# Altium schematic symbol library Control_Board_Model.SCHLIB: 226 symbols (part 2 of 7)
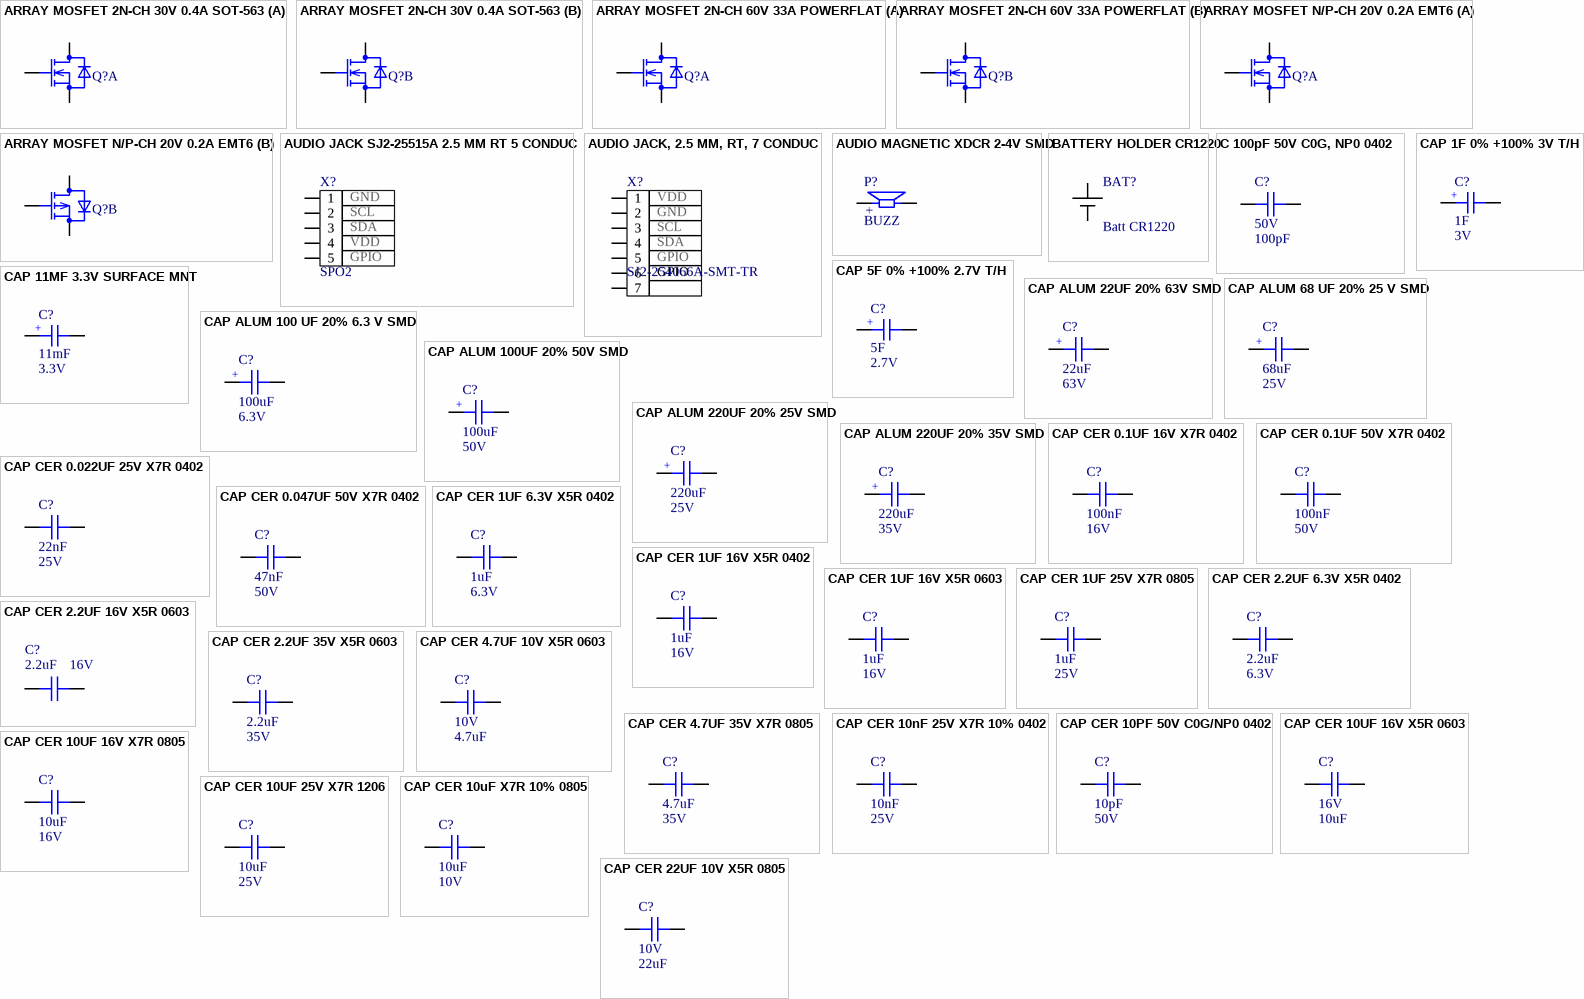
[diagram p8: symbols ARRAY MOSFET 2N-CH 30V 0.4A SOT-563 to CAP CER 22UF 10V X5R 0805]

## CAP CER 10UF 25V X7R 1206
designator C?  Capacitance: 10uF  Voltage Rating: 25V  (hidden comment: CAP CER 10UF 25V X7R 1206)
10µF ±10% 25V Ceramic Capacitor X7R 1206 (3216 Metric); Manufacturer: Yageo; Manufacturer Part Number: CC1206KKX7R8BB106; Supplier 1: Digi-Key; Stock 1: 3990; Pricing 1: 1=0.49, 10=0.348, 50=0.2632, 100=0.2293, 500=0.1698, 1000=0.1444 (USD); Mount: Surface Mount; Case/Package: 1206; Weight: 0.000571oz; Case Code (Imperial): 1206; Case Code (Metric): 3216; Min Operating Temperature: -55°C; Max Operating Temperature: 125°C; Tolerance: 10%; Packaging: Tape and Reel; Voltage Rating (DC): 25V; Dielectric: X7R; Termination: SMD/SMT; Composition: Ceramic; Length: 3.2mm; Width: 1.6mm; Thickness: 0.071inch; Depth: 1.6mm; Radiation Hardening: No; Lead Free: Lead Free; Halogen Free: Halogen Free; ComponentLink1URL: http://www.yageo.com/documents/recent/UPY-GPHC_X7R_6.3V-to-50V_8.pdf?src-supplier=Avnet; ComponentLink1Description: http://www.yageo.com/documents/recent/UPY-GPHC_X7R_6.3V-to-50V_8.pdf?src-supplier=Avnet; ComponentLink2URL: http://www.mouser.com/ds/2/447/Yageo_UPY-GP_NP0_16V-to-50V_9-358835.pdf?src-supplier=Mouser; ComponentLink2Description: http://www.mouser.com/ds/2/447/Yageo_UPY-GP_NP0_16V-to-50V_9-358835.pdf?src-supplier=Mouser; ComponentLink3URL: http://components.arrow.com/part/dataview/0323_04166677?src-supplier=Arrow+Europe; ComponentLink3Description: http://components.arrow.com/part/dataview/0323_04166677?src-supplier=Arrow+Europe; ComponentLink4URL: http://www.yageo.com/documents/recent/UPY-GPHC_X7R_6.3V-to-50V_18.pdf?src-supplier=Digi-Key; ComponentLink4Description: http://www.yageo.com/documents/recent/UPY-GPHC_X7R_6.3V-to-50V_18.pdf?src-supplier=Digi-Key; ComponentLink5URL: http://www.yageo.com/documents/recent/UPY-GPHC_X7R_6.3V-to-50V_9.pdf?src-supplier=Future+Electronics; ComponentLink5Description: http://www.yageo.com/documents/recent/UPY-GPHC_X7R_6.3V-to-50V_9.pdf?src-supplier=Future+Electronics; Supplier Part Number 1: 311-1959-1-ND
footprint CAP_1206
footprint C1206
pins: 1, 2

## CAP CER 10uF X7R 10% 0805
designator C?  Capacitance: 10uF  Voltage Rating: 10V  (hidden comment: CAP CER 10uF X7R 10% 0805)
Capacitor,10uF,10V,X7R,10%,0805,Murata; Manufacturer Part Number: GRM21BR71A106KA73L; Supplier 1: Digi-Key; Manufacturer: Murata; Stock 1: 2099435; Pricing 1: 1=0.26, 10=0.176, 100=0.089, 500=0.0609, 1000=0.0538 (USD); Mount: Surface Mount; Case/Package: 0805; Case Code (Imperial): 0805; Case Code (Metric): 2012; Min Operating Temperature: -55°C; Max Operating Temperature: 125°C; Tolerance: 10%; Dielectric: X7R; Voltage Rating (DC): 10V; Packaging: Tape and Reel; Package Quantity: 3000; Termination: SMD/SMT; Length: 2mm; Height: 1.25mm; Width: 1.25mm; Thickness: 0.055inch; Depth: 1.25mm; REACH SVHC: No SVHC; ComponentLink1URL: http://components.arrow.com/part/dataview/0323_07281730?src-supplier=Arrow+Europe; ComponentLink1Description: http://components.arrow.com/part/dataview/0323_07281730?src-supplier=Arrow+Europe; ComponentLink2URL: http://www.mouser.com/ds/2/281/c02e-2905.pdf?src-supplier=Mouser; ComponentLink2Description: http://www.mouser.com/ds/2/281/c02e-2905.pdf?src-supplier=Mouser; ComponentLink3URL: http://www.farnell.com/datasheets/2079188.pdf?src-supplier=Newark; ComponentLink3Description: http://www.farnell.com/datasheets/2079188.pdf?src-supplier=Newark; ComponentLink4URL: http://www.farnell.com/datasheets/2079188.pdf?src-supplier=Farnell; ComponentLink4Description: http://www.farnell.com/datasheets/2079188.pdf?src-supplier=Farnell; ComponentLink5URL: http://www.farnell.com/datasheets/2079188.pdf?src-supplier=Element14; ComponentLink5Description: http://www.farnell.com/datasheets/2079188.pdf?src-supplier=Element14; Supplier Part Number 1: 490-10516-1-ND; Weight: 0.000335oz; ComponentLink6URL: http://search.murata.co.jp/Ceramy/image/img/A01X/G101/ENG/GRM21BR71A106KA73-01.pdf?src-supplier=Digi-Key; ComponentLink6Description: http://search.murata.co.jp/Ceramy/image/img/A01X/G101/ENG/GRM21BR71A106KA73-01.pdf?src-supplier=Digi-Key
footprint 0805C
footprint C0805
pins: 1, 2

## CAP CER 22UF 10V X5R 0805
designator C?  Voltage Rating: 10V  Capacitance: 22uF  (hidden comment: CAP CER 22UF 10V X5R 0805)
22µF ±20% 10V Ceramic Capacitor X5R 0805 (2012 Metric); Manufacturer: Taiyo Yuden; Manufacturer Part Number: LMK212BJ226MG-T; Supplier 1: Digi-Key; Stock 1: 1006805; Pricing 1: 1=0.45, 10=0.312, 100=0.1875, 500=0.1406, 1000=0.1187 (USD); Mount: Surface Mount; Number of Pins: 2; Case Code (Metric): 2012; Case Code (Imperial): 0805; Min Operating Temperature: -55°C; Max Operating Temperature: 85°C; Packaging: Tape and Reel; Tolerance: 20%; Voltage Rating (DC): 10V; Dielectric: X5R; Termination: SMD/SMT; Package Quantity: 1; Composition: Ceramic; Length: 2mm; Height: 1.25mm; Width: 0.049inch; Thickness: 0.053inch; Depth: 1.25mm; Radiation Hardening: No; REACH SVHC: Unknown; ComponentLink1URL: https://www.yuden.co.jp/productdata/catalog/mlcc_all_e.pdf?src-supplier=Onlinecomponents.com; ComponentLink1Description: https://www.yuden.co.jp/productdata/catalog/mlcc_all_e.pdf?src-supplier=Onlinecomponents.com; ComponentLink2URL: https://www.yuden.co.jp/productdata/catalog/mlcc01_e.pdf?src-supplier=Digi-Key; ComponentLink2Description: https://www.yuden.co.jp/productdata/catalog/mlcc01_e.pdf?src-supplier=Digi-Key; ComponentLink3URL: https://www.yuden.co.jp/productdata/catalog/mlcc_all_e.pdf?src-supplier=Mouser; ComponentLink3Description: https://www.yuden.co.jp/productdata/catalog/mlcc_all_e.pdf?src-supplier=Mouser; ComponentLink4URL: http://www.farnell.com/datasheets/1910934.pdf?src-supplier=Element14; ComponentLink4Description: http://www.farnell.com/datasheets/1910934.pdf?src-supplier=Element14; ComponentLink5URL: https://www.yuden.co.jp/productdata/catalog/mlcc_all_e.pdf?src-supplier=Avnet; ComponentLink5Description: https://www.yuden.co.jp/productdata/catalog/mlcc_all_e.pdf?src-supplier=Avnet; Supplier Part Number 1: 587-1958-1-ND; Case/Package: 0805
footprint C0805
pins: 1, 2

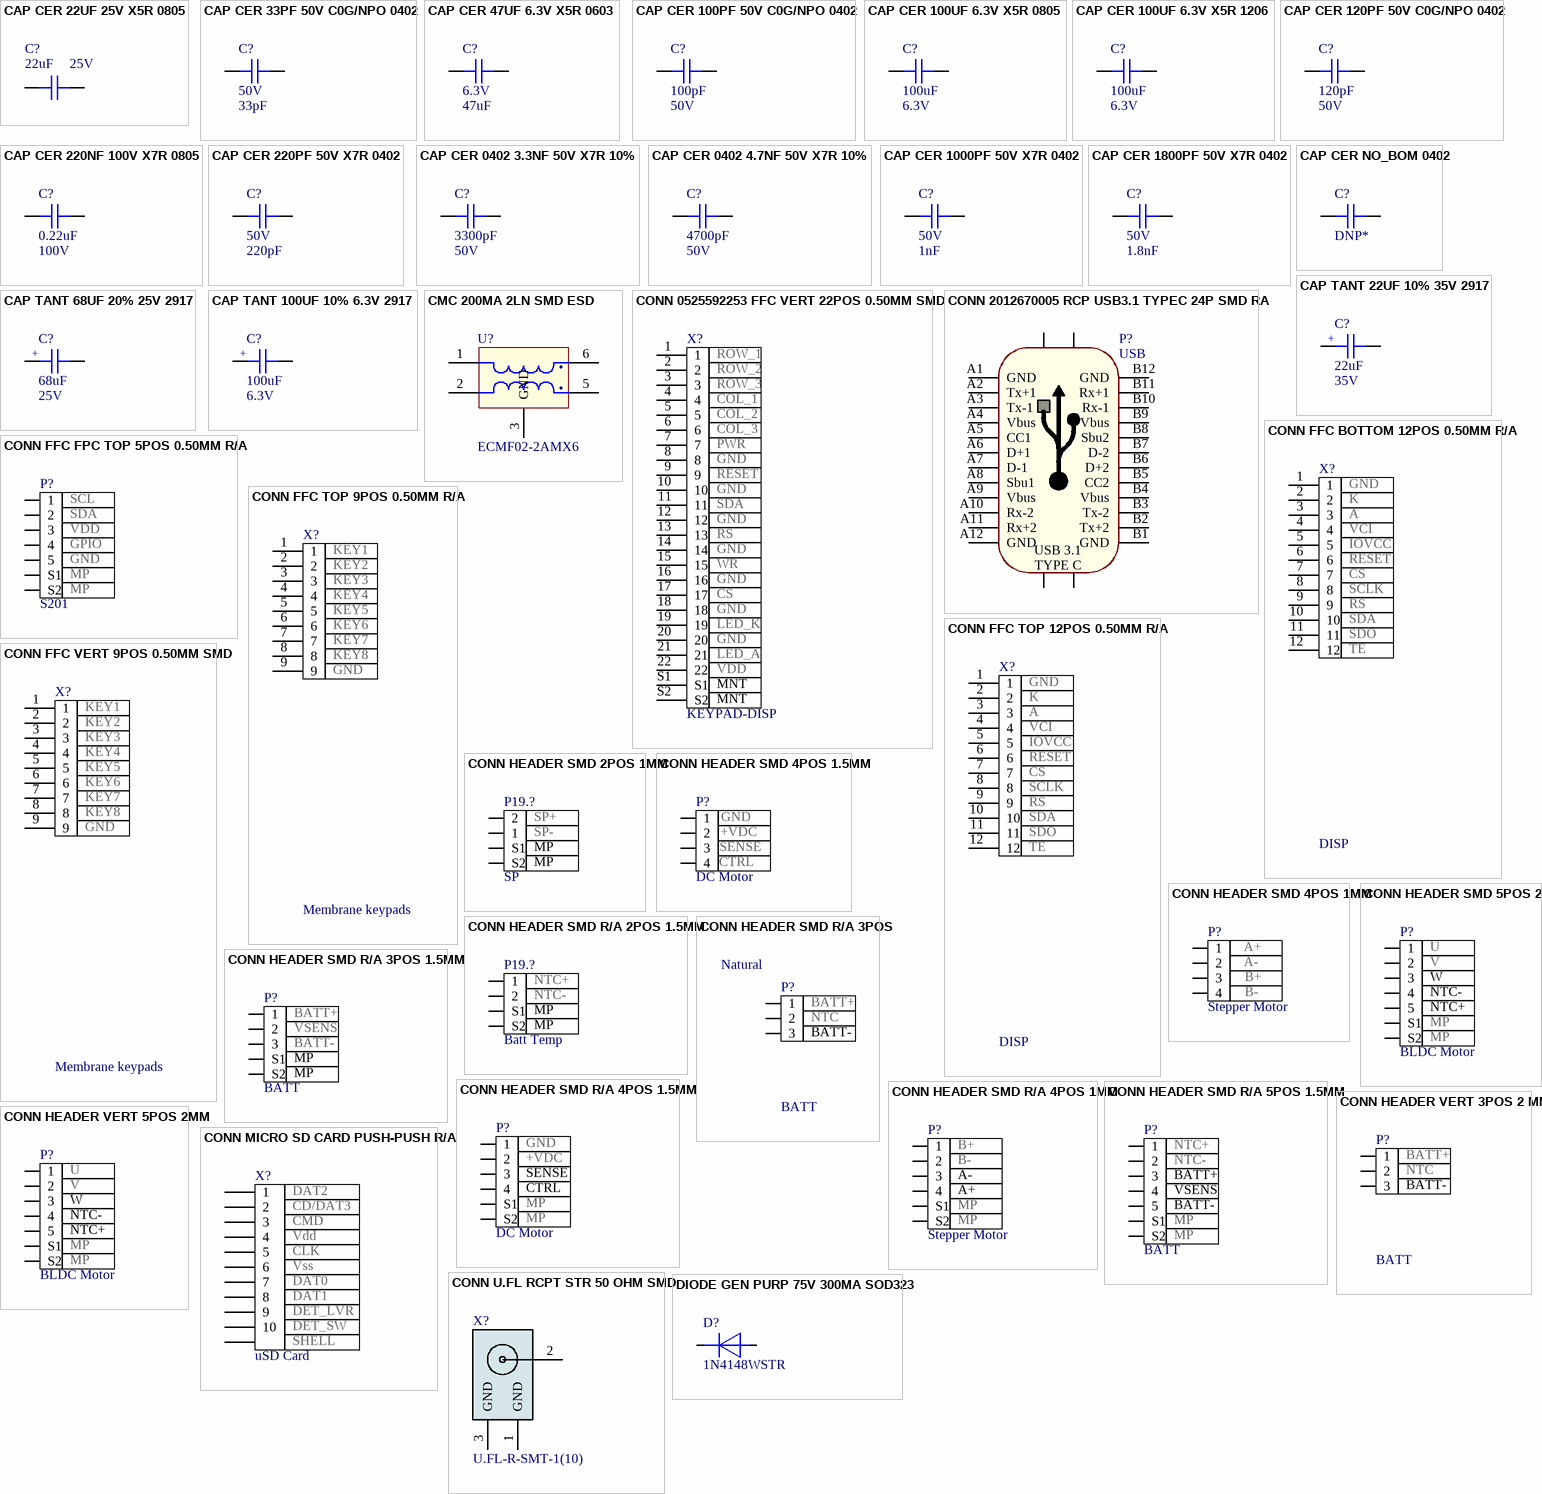
[diagram p1: symbols CAP CER 22UF 25V X5R 0805 to DIODE GEN PURP 75V 300MA SOD323]

## CAP CER 22UF 25V X5R 0805
designator C?  Capacitance: 22uF  Voltage Rating: 25V  (hidden comment: CAP CER 22UF 25V X5R 0805)
22µF ±20% 25V Ceramic Capacitor X5R 0805 (2012 Metric); Manufacturer: Yageo; Manufacturer Part Number: CC0805MKX5R8BB226; Supplier 1: Digi-Key; Stock 1: 1060; Pricing 1: 1=0.5, 10=0.353, 50=0.267, 100=0.2325, 500=0.1722, 1000=0.1464 (USD); Mount: Surface Mount; Case/Package: 0805; Weight: 0.000194oz; Case Code (Metric): 2012; Case Code (Imperial): 0805; Min Operating Temperature: -55°C; Max Operating Temperature: 85°C; Packaging: Tape and Reel; Tolerance: 20%; Dielectric: X5R; Termination: SMD/SMT; Voltage Rating (DC): 25V; Package Quantity: 3000; Length: 0.079inch; Height: 1.25mm; Width: 0.049inch; Thickness: 0.057inch; Lead Free: Lead Free; Halogen Free: Halogen Free; ComponentLink1URL: http://www.yageo.com/documents/recent/UPY-GPHC_X5R_4V-to-50V_25.pdf?src-supplier=Digi-Key; ComponentLink1Description: http://www.yageo.com/documents/recent/UPY-GPHC_X5R_4V-to-50V_25.pdf?src-supplier=Digi-Key; ComponentLink2URL: http://www.mouser.com/ds/2/447/Yageo_UPY-GP_NP0_16V-to-50V_9-358835.pdf?src-supplier=Mouser; ComponentLink2Description: http://www.mouser.com/ds/2/447/Yageo_UPY-GP_NP0_16V-to-50V_9-358835.pdf?src-supplier=Mouser; Supplier Part Number 1: 311-1903-1-ND
footprint C0805
pins: 1, 2

## CAP CER 33PF 50V C0G/NPO 0402
designator C?  Voltage Rating: 50V  Capacitance: 33pF  (hidden comment: CAP CER 33PF 50V C0G/NPO 0402)
33pF ±5% 50V Ceramic Capacitor C0G, NP0 0402 (1005 Metric); Manufacturer: Yageo; Manufacturer Part Number: CC0402JRNPO9BN330; Insulation Resistance: 100GR; Supplier 1: Digi-Key; Stock 1: 622219; Pricing 1: 1=0.1, 10=0.022, 100=0.0099, 500=0.0071, 1000=0.0056, 2500=0.0051, 5000=0.0047 (USD); Mount: Surface Mount; Number of Pins: 2; Weight: 2.3E-05oz; Case Code (Imperial): 0402; Case Code (Metric): 1005; Dielectric Material: Ceramic; Min Operating Temperature: -55°C; Max Operating Temperature: 125°C; Tolerance: 5%; Dielectric: C0G; Voltage Rating (DC): 50V; Packaging: Tape and Reel; Package Quantity: 1; Termination: SMD/SMT; Composition: Ceramic; Length: 1mm; Height: 0.5mm; Depth: 0.5mm; Width: 0.5mm; Thickness: 0.022inch; Radiation Hardening: No; REACH SVHC: No SVHC; Lead Free: Lead Free; ComponentLink1URL: https://www.verical.com/server-webapp/html/getDatasheet?partID=403453&src-supplier=Verical; ComponentLink1Description: https://www.verical.com/server-webapp/html/getDatasheet?partID=403453&src-supplier=Verical; ComponentLink2URL: http://www.farnell.com/datasheets/2213336.pdf?src-supplier=Element14; ComponentLink2Description: http://www.farnell.com/datasheets/2213336.pdf?src-supplier=Element14; ComponentLink3URL: http://www.mouser.com/ds/2/447/Yageo_UPY-GP_NP0_16V-to-50V_9-358835.pdf?src-supplier=Mouser; ComponentLink3Description: http://www.mouser.com/ds/2/447/Yageo_UPY-GP_NP0_16V-to-50V_9-358835.pdf?src-supplier=Mouser; ComponentLink4URL: http://www.yageo.com/documents/recent/UPY-GP_NP0_16V-to-50V_16.pdf?src-supplier=Digi-Key; ComponentLink4Description: http://www.yageo.com/documents/recent/UPY-GP_NP0_16V-to-50V_16.pdf?src-supplier=Digi-Key; ComponentLink5URL: http://www.yageo.com/documents/recent/UPY-GP_NP0_16V-to-50V_8.pdf?src-supplier=Avnet+Europe; ComponentLink5Description: http://www.yageo.com/documents/recent/UPY-GP_NP0_16V-to-50V_8.pdf?src-supplier=Avnet+Europe; Supplier Part Number 1: 311-1020-1-ND; Case/Package: 0402; ClassName: P109
footprint C0402
pins: 1, 2

## CAP CER 47UF 6.3V X5R 0603
designator C?  Voltage Rating: 6.3V  Capacitance: 47uF  (hidden comment: CAP CER 47UF 6.3V X5R 0603)
47 µF ±20% 6.3V Ceramic Capacitor X5R 0603 (1608 Metric); Manufacturer: AVX Corporation; Manufacturer Part Number: 06036D476MAT2A; Supplier 1: Digi-Key; Stock 1: 325858; Pricing 1: 1=0.26, 10=0.18, 100=0.102, 500=0.072, 1000=0.063 (USD); Mount: Surface Mount; Case Code (Imperial): 0603; Case Code (Metric): 1608; Min Operating Temperature: -55°C; Max Operating Temperature: 85°C; Voltage Rating (DC): 6.3V; Tolerance: 20%; Packaging: Tape and Reel; Package Quantity: 1; Dielectric: X5R; Termination: SMD/SMT; Composition: Ceramic; Length: 1.6mm; Height: 0.8mm; Width: 0.8mm; Thickness: 0.035inch; Depth: 0.8mm; Radiation Hardening: No; REACH SVHC: Unknown; Lead Free: Lead Free; Halogen Free: Halogen Free; ComponentLink1URL: https://www.digikey.com/en/products/detail/avx-corporation/06036D476MAT2A/7563129?s=N4IgTCBcDaIAwDY4GYEBEAsB2BBZAggCpj4gC6AvkA; ComponentLink1Description: https://www.digikey.com/en/products/detail/avx-corporation/06036D476MAT2A/7563129?s=N4IgTCBcDaIAwDY4GYEBEAsB2BBZAggCpj4gC6AvkA; Supplier Part Number 1: 478-11180-1-ND; Case/Package: 0603
footprint 0603C
footprint C0603
pins: 1, 2

## CAP CER 100PF 50V C0G/NPO 0402
designator C?  Capacitance: 100pF  Voltage: 50V  (hidden comment: CAP CER 100PF 50V C0G/NPO 0402)
100pF ±5% 50V Ceramic Capacitor C0G, NP0 0402 (1005 Metric); Manufacturer: Yageo; Manufacturer Part Number: CC0402JRNPO9BN101; Insulation Resistance: 100GR; Temperature Coefficient: 30ppm/°C; Supplier 1: Digi-Key; Stock 1: 3017640; Pricing 1: 1=0.1, 10=0.02, 100=0.0089, 500=0.0064, 1000=0.005, 2500=0.0046, 5000=0.0042 (USD); Mount: Surface Mount; Case Code (Metric): 1005; Case Code (Imperial): 0402; Min Operating Temperature: -55°C; Max Operating Temperature: 125°C; Tolerance: 5%; Dielectric: C0G; Voltage Rating (DC): 50V; Packaging: Tape and Reel; Voltage Rating: 50V; Package Quantity: 1; Termination: SMD/SMT; Length: 1mm; Height: 0.5mm; Depth: 0.5mm; Width: 0.5mm; Thickness: 0.022inch; Radiation Hardening: No; REACH SVHC: No SVHC; Lead Free: Lead Free; ComponentLink1URL: http://www.farnell.com/datasheets/2213336.pdf?src-supplier=Newark; ComponentLink1Description: http://www.farnell.com/datasheets/2213336.pdf?src-supplier=Newark; ComponentLink2URL: http://www.yageo.com/documents/recent/UPY-GP_NP0_16V-to-50V_16.pdf?src-supplier=Digi-Key; ComponentLink2Description: http://www.yageo.com/documents/recent/UPY-GP_NP0_16V-to-50V_16.pdf?src-supplier=Digi-Key; ComponentLink3URL: http://documents.rs-components.com/techlib://itc_doclist_GB.htm?stockno=6698684&src-supplier=RSComponents; ComponentLink3Description: http://documents.rs-components.com/techlib://itc_doclist_GB.htm?stockno=6698684&src-supplier=RSComponents; ComponentLink4URL: http://www.yageo.com/documents/recent/UPY-GP_NP0_16V-to-50V_8.pdf?src-supplier=Avnet+Europe; ComponentLink4Description: http://www.yageo.com/documents/recent/UPY-GP_NP0_16V-to-50V_8.pdf?src-supplier=Avnet+Europe; Supplier Part Number 1: 311-1024-6-ND; Case/Package: 0402; Number of Pins: 2; Dielectric Material: Ceramic; Composition: Ceramic; ComponentLink5URL: http://www.farnell.com/datasheets/1443161.pdf?src-supplier=Element14; ComponentLink5Description: http://www.farnell.com/datasheets/1443161.pdf?src-supplier=Element14; ComponentLink6URL: http://www.farnell.com/datasheets/2213336.pdf?src-supplier=Element14; ComponentLink6Description: http://www.farnell.com/datasheets/2213336.pdf?src-supplier=Element14
footprint C0402
pins: 1, 2

## CAP CER 100UF 6.3V X5R 0805
designator C?  Capacitance: 100uF  Voltage Rating: 6.3V  (hidden comment: CAP CER 100UF 6.3V X5R 0805)
100 µF ±20% 6.3V Ceramic Capacitor X5R 0805 (2012 Metric); Manufacturer: CAL-CHIP ELECTRONICS, INC.; Manufacturer Part Number: GMC21X5R107M6R3NT; Supplier 1: Digi-Key; Stock 1: 3990; Pricing 1: 1=0.49, 10=0.348, 50=0.2632, 100=0.2293, 500=0.1698, 1000=0.1444 (USD); Mount: Surface Mount; Case/Package: 0805; Weight: 0.000571oz; Case Code (Imperial): 0805; Case Code (Metric): 2012; Min Operating Temperature: -55°C; Max Operating Temperature: 85°C; Tolerance: 20%; Packaging: Tape and Reel; Voltage Rating (DC): 6.3V; Dielectric: X5R; Termination: SMD/SMT; Composition: Ceramic; Length: 2mm; Width: 1.25mm; Thickness: 0.071inch; Depth: 1.5mm; Radiation Hardening: No; Lead Free: Lead Free; Halogen Free: Halogen Free; ComponentLink1URL: https://www.digikey.com/en/products/detail/cal-chip-electronics-inc/GMC21X5R107M6R3NT/12140431; ComponentLink1Description: https://www.digikey.com/en/products/detail/cal-chip-electronics-inc/GMC21X5R107M6R3NT/12140431; Supplier Part Number 1: 2571-GMC21X5R107M6R3NTTR-ND
footprint C0805
pins: 1, 2

## CAP CER 100UF 6.3V X5R 1206
designator C?  Capacitance: 100uF  Voltage Rating: 6.3V  (hidden comment: CAP CER 100UF 6.3V X5R 1206)
100 µF ±20% 6.3V Ceramic Capacitor X5R 1206 (3216 Metric); Manufacturer: Yageo; Manufacturer Part Number: CC1206MKX5R5BB107; Supplier 1: Digi-Key; Stock 1: 3990; Pricing 1: 1=0.49, 10=0.348, 50=0.2632, 100=0.2293, 500=0.1698, 1000=0.1444 (USD); Mount: Surface Mount; Case/Package: 1206; Weight: 0.000571oz; Case Code (Imperial): 1206; Case Code (Metric): 3216; Min Operating Temperature: -55°C; Max Operating Temperature: 85°C; Tolerance: 20%; Packaging: Tape and Reel; Voltage Rating (DC): 6.3V; Dielectric: X5R; Termination: SMD/SMT; Composition: Ceramic; Length: 3.2mm; Width: 1.6mm; Thickness: 0.071inch; Depth: 1.6mm; Radiation Hardening: No; Lead Free: Lead Free; Halogen Free: Halogen Free; ComponentLink1URL: https://www.digikey.com/en/products/detail/yageo/CC1206MKX5R5BB107/5195397?s=N4IgjCBcpgbFoDGUBmBDANgZwKYBoQB7KAbRAA4BmAdjAgF0CAHAFyhAGUWAnASwDsA5iAC%2BBAEwAGACwBOBCGSR02fEVLhJkgAQBWgGIhGIVuwCq-XiwDyKALI40WAK7ccoggFoI0Raky4BMSQZGCURiKRQA; ComponentLink1Description: https://www.digikey.com/en/products/detail/yageo/CC1206MKX5R5BB107/5195397?s=N4IgjCBcpgbFoDGUBmBDANgZwKYBoQB7KAbRAA4BmAdjAgF0CAHAFyhAGUWAnASwDsA5iAC%2BBAEwAGACwBOBCGSR02fEVLhJkgAQBWgGIhGIVuwCq-XiwDyKALI40WAK7ccoggFoI0Raky4BMSQZGCURiKRQA; Supplier Part Number 1: 13-CC1206MKX5R5BB107TR-ND
footprint CAP_1206
footprint C1206
pins: 1, 2

## CAP CER 120PF 50V C0G/NPO 0402
designator C?  Capacitance: 120pF  Voltage: 50V  (hidden comment: CAP CER 120PF 50V C0G/NPO 0402)
120pF ±5% 50V Ceramic Capacitor C0G, NP0 0402 (1005 Metric); Manufacturer: Yageo; Manufacturer Part Number: CC0402JRNPO9BN121; Insulation Resistance: 100GR; Temperature Coefficient: 30ppm/°C; Supplier 1: Digi-Key; Stock 1: 3017640; Pricing 1: 1=0.1, 10=0.02, 100=0.0089, 500=0.0064, 1000=0.005, 2500=0.0046, 5000=0.0042 (USD); Mount: Surface Mount; Case Code (Metric): 1005; Case Code (Imperial): 0402; Min Operating Temperature: -55°C; Max Operating Temperature: 125°C; Tolerance: 5%; Dielectric: C0G; Voltage Rating (DC): 50V; Packaging: Tape and Reel; Voltage Rating: 50V; Package Quantity: 1; Termination: SMD/SMT; Length: 1mm; Height: 0.5mm; Depth: 0.5mm; Width: 0.5mm; Thickness: 0.022inch; Radiation Hardening: No; REACH SVHC: No SVHC; Lead Free: Lead Free; ComponentLink1URL: https://www.digikey.com/en/products/detail/yageo/CC0402JRNPO9BN121/2297891?s=N4IgTCBcDaIMJwAwBZFgFICUByAFA8gJwBC2AjGGSALoC%2BQA; ComponentLink1Description: https://www.digikey.com/en/products/detail/yageo/CC0402JRNPO9BN121/2297891?s=N4IgTCBcDaIMJwAwBZFgFICUByAFA8gJwBC2AjGGSALoC%2BQA; Supplier Part Number 1: 311-3337-2-ND; Case/Package: 0402; Number of Pins: 2; Dielectric Material: Ceramic; Composition: Ceramic
footprint C0402
pins: 1, 2

## CAP CER 220NF 100V X7R 0805
designator C?  Capacitance: 0.22uF  Voltage Rating: 100V  (hidden comment: CAP CER 220NF 100V X7R 0805)
0.22 µF ±10% 100V Ceramic Capacitor X7R 0805 (2012 Metric); Manufacturer: KEMET; Manufacturer Part Number: C0805C224K1RECAUTO; Supplier 1: Digi-Key; Stock 1: 251380; Pricing 1: 1=0.3, 10=0.207, 100=0.1173, 500=0.0828, 1000=0.0725 (USD); Mount: Surface Mount; Case/Package: 0805; Case Code (Metric): 2012; Case Code (Imperial): 0805; Material: Ceramic; Min Operating Temperature: -55°C; Max Operating Temperature: 125°C; Tolerance: 10%; Packaging: Tape and Reel; Package Quantity: 2500; Length: 0.079inch; Width: 0.049inch; Thickness: 0.055inch; Depth: 1.25mm; Lead Free: Lead Free; ComponentLink1URL: https://www.digikey.com/en/products/detail/kemet/C0805C224K1RECAUTO/8640484; ComponentLink1Description: https://www.digikey.com/en/products/detail/kemet/C0805C224K1RECAUTO/8640484; Supplier Part Number 1: 399-17890-1-ND; Dielectric: X7R
footprint CAPC2012X14N (Chip Capacitor, 2-Leads, Body 2.00x1.25mm, IPC Medium Density)
footprint 0805C
footprint C0805
pins: 1, 2

## CAP CER 220PF 50V X7R 0402
designator C?  Voltage Rating: 50V  Capacitance: 220pF  (hidden comment: CAP CER 220PF 50V X7R 0402)
220pF ±10% 50V Ceramic Capacitor X7R 0402 (1005 Metric); Manufacturer: Yageo; Manufacturer Part Number: CC0402KRX7R9BB221; Insulation Resistance: 100GR; Supplier 1: Digi-Key; Stock 1: 91221; Pricing 1: 1=0.1, 10=0.026, 50=0.014, 100=0.0114, 500=0.0081, 1000=0.0064, 2500=0.0058, 5000=0.0053 (USD); Mount: Surface Mount; Case/Package: 0402; Weight: 2.3E-05oz; Case Code (Metric): 1005; Case Code (Imperial): 0402; Min Operating Temperature: -55°C; Max Operating Temperature: 125°C; Tolerance: 10%; Packaging: Tape and Reel; Package Quantity: 1; Voltage Rating (DC): 50V; Dielectric: X7R; Termination: SMD/SMT; Composition: Ceramic; Length: 1mm; Height: 0.5mm; Width: 0.02inch; Thickness: 0.022inch; Depth: 0.5mm; REACH SVHC: No SVHC; Lead Free: Lead Free; ComponentLink1URL: http://www.yageo.com/documents/recent/UPY-GPHC_X7R_6.3V-to-50V_18.pdf?src-supplier=Digi-Key; ComponentLink1Description: http://www.yageo.com/documents/recent/UPY-GPHC_X7R_6.3V-to-50V_18.pdf?src-supplier=Digi-Key; ComponentLink2URL: http://www.farnell.com/datasheets/2167236.pdf?src-supplier=Farnell; ComponentLink2Description: http://www.farnell.com/datasheets/2167236.pdf?src-supplier=Farnell; ComponentLink3URL: http://www.yageo.com/documents/recent/UPY-GPHC_X7R_6.3V-to-50V_8.pdf?src-supplier=Avnet; ComponentLink3Description: http://www.yageo.com/documents/recent/UPY-GPHC_X7R_6.3V-to-50V_8.pdf?src-supplier=Avnet; ComponentLink4URL: http://www.farnell.com/datasheets/1489800.pdf?src-supplier=Element14; ComponentLink4Description: http://www.farnell.com/datasheets/1489800.pdf?src-supplier=Element14; ComponentLink5URL: http://www.mouser.com/ds/2/447/Yageo_UPY-GP_NP0_16V-to-50V_9-358835.pdf?src-supplier=Mouser; ComponentLink5Description: http://www.mouser.com/ds/2/447/Yageo_UPY-GP_NP0_16V-to-50V_9-358835.pdf?src-supplier=Mouser; Supplier Part Number 1: 311-1035-1-ND; Number of Pins: 2; Dielectric Material: Ceramic; Radiation Hardening: No; Halogen Free: Halogen Free; ComponentLink6URL: https://www.verical.com/server-webapp/html/getDatasheet?partID=403476&src-supplier=Verical; ComponentLink6Description: https://www.verical.com/server-webapp/html/getDatasheet?partID=403476&src-supplier=Verical; ComponentLink7URL: http://www.yageo.com/documents/recent/UPY-GPHC_X7R_6.3V-to-50V_8.pdf?src-supplier=Avnet+Europe; ComponentLink7Description: http://www.yageo.com/documents/recent/UPY-GPHC_X7R_6.3V-to-50V_8.pdf?src-supplier=Avnet+Europe; ClassName: TCPP
footprint C0402
pins: 1, 2

## CAP CER 0402 3.3NF 50V X7R 10%
designator C?  Capacitance: 3300pF  Voltage Rating: 50V  (hidden comment: CAP CER 0402 3.3NF 50V X7R 10%)
3300 pF ±10% 50V Ceramic Capacitor X7R 0402 (1005 Metric); Manufacturer: KEMET; Manufacturer Part Number: C0402C332K5RECAUTO; Dissipation Factor: 0.1%; Supplier 1: Digi-Key; Stock 1: 57093; Pricing 1: 1=0.1, 10=0.021, 50=0.0116, 100=0.0095, 500=0.0068, 1000=0.0053, 2500=0.0048, 5000=0.0045 (USD); Mount: Surface Mount; Case/Package: 0402; Case Code (Metric): 1005; Case Code (Imperial): 0402; Dielectric Material: Ceramic; Min Operating Temperature: -55°C; Max Operating Temperature: 125°C; Tolerance: 10%; Packaging: Tape and Reel; Package Quantity: 10000; Voltage Rating (DC): 50V; Dielectric: X7R; Termination: SMD/SMT; Length: 1mm; Height: 0.5mm; Width: 0.02inch; Thickness: 0.022inch; Lead Pitch: 0.3mm; Depth: 0.5mm; Radiation Hardening: No; REACH SVHC: No SVHC; Lead Free: Lead Free; ComponentLink1URL: http://www.mouser.com/ds/2/212/KEM_C1003_C0G_SMD-1101588.pdf?src-supplier=Mouser; ComponentLink1Description: http://www.mouser.com/ds/2/212/KEM_C1003_C0G_SMD-1101588.pdf?src-supplier=Mouser; Supplier Part Number 1: 399-C0402C472K5RECAUTOCT-ND; ClassName: P109
footprint C0402
pins: 1, 2

## CAP CER 0402 4.7NF 50V X7R 10%
designator C?  Capacitance: 4700pF  Voltage Rating: 50V  (hidden comment: CAP CER 0402 4.7NF 50V X7R 10%)
4700 pF ±10% 50V Ceramic Capacitor X7R 0402 (1005 Metric); Manufacturer: KEMET; Manufacturer Part Number: C0402C472K5RECAUTO; Dissipation Factor: 0.1%; Supplier 1: Digi-Key; Stock 1: 57093; Pricing 1: 1=0.1, 10=0.021, 50=0.0116, 100=0.0095, 500=0.0068, 1000=0.0053, 2500=0.0048, 5000=0.0045 (USD); Mount: Surface Mount; Case/Package: 0402; Case Code (Metric): 1005; Case Code (Imperial): 0402; Dielectric Material: Ceramic; Min Operating Temperature: -55°C; Max Operating Temperature: 125°C; Tolerance: 10%; Packaging: Tape and Reel; Package Quantity: 10000; Voltage Rating (DC): 50V; Dielectric: X7R; Termination: SMD/SMT; Length: 1mm; Height: 0.5mm; Width: 0.02inch; Thickness: 0.022inch; Lead Pitch: 0.3mm; Depth: 0.5mm; Radiation Hardening: No; REACH SVHC: No SVHC; Lead Free: Lead Free; ComponentLink1URL: http://www.mouser.com/ds/2/212/KEM_C1003_C0G_SMD-1101588.pdf?src-supplier=Mouser; ComponentLink1Description: http://www.mouser.com/ds/2/212/KEM_C1003_C0G_SMD-1101588.pdf?src-supplier=Mouser; Supplier Part Number 1: 399-C0402C472K5RECAUTOCT-ND; ClassName: P109
footprint C0402
pins: 1, 2

## CAP CER 1000PF 50V X7R 0402
designator C?  Voltage Rating (DC): 50V  Capacitance: 1nF  (hidden comment: CAP CER 1000PF 50V X7R 0402)
1000pF ±10% 50V Ceramic Capacitor X7R 0402 (1005 Metric); Manufacturer: TDK-Lambda; Manufacturer Part Number: C0402C102K5RACTU; Supplier 1: Digi-Key; Stock 1: 1578852; Pricing 1: 1=0.1, 10=0.021, 50=0.0116, 100=0.0095, 500=0.0068, 1000=0.0053, 2500=0.0048, 5000=0.0045 (USD); Case/Package: 0402; Number of Pins: 2; Dielectric Material: Ceramic; Dielectric: X7R; Packaging: Cut Tape; Tolerance: 10%; Length: 1mm; Height: 500um; Width: 500um; REACH SVHC: No SVHC; ComponentLink1URL: http://www.onlinecomponents.com/productFiles/mf-KEM/kem_c1002_x7r_smd.pdf?src-supplier=Onlinecomponents.com; ComponentLink1Description: http://www.onlinecomponents.com/productFiles/mf-KEM/kem_c1002_x7r_smd.pdf?src-supplier=Onlinecomponents.com; Supplier Part Number 1: 399-1032-6-ND; Mount: Surface Mount
footprint CAP_0402
footprint C0402
pins: 1, 2

## CAP CER 1800PF 50V X7R 0402
designator C?  Voltage Rating (DC): 50V  Capacitance: 1.8nF  (hidden comment: CAP CER 1800PF 50V X7R 0402)
1800pF ±5% 50V Ceramic Capacitor X7R 0402 (1005 Metric); Manufacturer: KEMET; Manufacturer Part Number: C0402C182J5RACTU; Dissipation Factor: 2.5%; Supplier 1: Digi-Key; Stock 1: 45958; Pricing 1: 1=0.46, 10=0.322, 50=0.2438, 100=0.2124, 500=0.1573, 1000=0.1337, 2500=0.1258, 5000=0.118 (USD); Mount: Surface Mount; Case/Package: 0402; Case Code (Metric): 1005; Case Code (Imperial): 0402; Min Operating Temperature: -55°C; Max Operating Temperature: 125°C; Package Quantity: 1; Packaging: Tape and Reel; Tolerance: 5%; Dielectric: X7R; Termination: SMD/SMT; Length: 1mm; Height: 0.5mm; Width: 0.02inch; Thickness: 0.022inch; ComponentLink1URL: http://www.mouser.com/ds/2/212/KEM_C1002_X7R_SMD-1102033.pdf?src-supplier=Mouser; ComponentLink1Description: http://www.mouser.com/ds/2/212/KEM_C1002_X7R_SMD-1102033.pdf?src-supplier=Mouser; Supplier Part Number 1: 399-8953-1-ND; Voltage Rating: 50V; Dielectric Material: Ceramic; Depth: 0.5mm; REACH SVHC: No SVHC; Lead Pitch: 0.3mm; Radiation Hardening: No
footprint CAP_0402
footprint C0402
pins: 1, 2

## CAP CER NO_BOM 0402
designator C?, comment DNP*  (no BOM)
Placeholder for a 0402 capacitor
footprint C0402
pins: 1, 2

## CAP TANT 22UF 10% 35V 2917
designator C?  Capacitance: 22uF  Rated Voltage: 35V  (hidden comment: CAP TANT 22UF 10% 35V 2917)
22 µF Molded Tantalum Capacitors 35 V 2917 (7343 Metric) 700mOhm; Manufacturer: KEMET; Manufacturer Part Number: T491X226K035AT; Endurance: 2000h; Capacitance Tolerance: +/-10%; Supplier 1: Digi-Key; Packaging: Tape and Reel; ComponentLink1URL: https://www.digikey.com/en/products/detail/kemet/T491X226K035AT/818676; ComponentLink1Description: Manufacturer; Supplier Part Number 1: 399-3816-2-ND; Height: 4.3mm; ComponentLink2URL: https://www.digikey.com/en/products/detail/kemet/T491X226K035AT/818676; ComponentLink2Description: Datasheet; Mounting Technology: SMT; Operating Temperature: -55 to +125degC; Dissipation Factor: 10%; Mount: Surface Mount
footprint CT7343
pins: 1, 2
text: +

## CAP TANT 68UF 20% 25V 2917
designator C?  Capacitance: 68uF  Rated Voltage: 25V  (hidden comment: CAP TANT 68UF 20% 25V 2917)
68 µF Molded Tantalum Capacitors 25 V 2917 (7343 Metric) 200mOhm; Manufacturer: KEMET; Manufacturer Part Number: T495X686M025ATE200; Dissipation Factor: 10%; Endurance: 2000h; Capacitance Tolerance: +/-20%; Supplier 1: Digi-Key; Packaging: Tape and Reel; ComponentLink1URL: https://www.digikey.com/en/products/detail/kemet/T495X686M025ATE200/3760589; ComponentLink1Description: Manufacturer; Supplier Part Number 1: 399-10314-2-ND; Height: 4.3mm; ComponentLink2URL: https://www.digikey.com/en/products/detail/kemet/T495X686M025ATE200/3760589; ComponentLink2Description: Datasheet; Mounting Technology: SMT; Operating Temperature: -55 to +125degC; Mount: Surface Mount
footprint CT7343
pins: 1, 2
text: +

## CAP TANT 100UF 10% 6.3V 2917
designator C?  Capacitance: 100uF  Rated Voltage: 6.3V  (hidden comment: CAP TANT 100UF 10% 6.3V 2917)
100 µF Molded Tantalum Capacitors 6.3 V 2917 (7343 Metric) 800mOhm; Manufacturer: KEMET; Manufacturer Part Number: T491D107K006AT; Endurance: 2000h; Capacitance Tolerance: +/-10%; Supplier 1: Digi-Key; Packaging: Tape and Reel; ComponentLink1URL: https://www.digikey.com/en/products/detail/kemet/T491D107K006AT/2336314; ComponentLink1Description: Manufacturer; Supplier Part Number 1: 399-8364-2-ND; Height: 4.3mm; ComponentLink2URL: https://www.digikey.com/en/products/detail/kemet/T491D107K006AT/2336314; ComponentLink2Description: Datasheet; Mounting Technology: SMT; Operating Temperature: -55 to +125degC; Dissipation Factor: 10%; Mount: Surface Mount
footprint CT7343
pins: 1, 2
text: +

## CMC 200MA 2LN SMD ESD
designator U?, comment ECMF02-2AMX6
2 Line Common Mode Choke Surface Mount  200mA DCR 2.5Ohm; Manufacturer: STMicroelectronics; Number of Lines: 2; DC Resistance (DCR): 2.5R; Supplier 1: Digi-Key; Manufacturer Part Number: ECMF02-2AMX6; Stock 1: 23653; Pricing 1: 1=0.48, 10=0.418, 25=0.3888, 50=0.3288, 100=0.2989, 250=0.281, 500=0.2511, 1000=0.2033 (USD); Mount: Surface Mount; Case/Package: QFN; Number of Pins: 6; Min Operating Temperature: -40°C; Max Operating Temperature: 85°C; Packaging: Tape and Reel; Package Quantity: 1; Current: 200mA; Termination: Flat; Max Current Rating: 200mA; Current Rating: 200mA; Length: 1.75mm; Height: 0.022inch; Width: 0.059inch; Depth: 1.55mm; Radiation Hardening: No; Lead Free: Lead Free; REACH SVHC: No SVHC; ComponentLink1URL: http://www.st.com/web/en/resource/technical/document/datasheet/CD00282307.pdf?src-supplier=Future+Electronics; ComponentLink1Description: http://www.st.com/web/en/resource/technical/document/datasheet/CD00282307.pdf?src-supplier=Future+Electronics; ComponentLink2URL: http://www.st.com/content/ccc/resource/technical/document/datasheet/3a/28/cf/d0/31/63/48/8c/CD00282307.pdf/files/CD00282307.pdf/jcr:content/translations/en.CD00282307.pdf?src-supplier=Digi-Key; ComponentLink2Description: http://www.st.com/content/ccc/resource/technical/document/datasheet/3a/28/cf/d0/31/63/48/8c/CD00282307.pdf/files/CD00282307.pdf/jcr:content/translations/en.CD00282307.pdf?src-supplier=Digi-Key; ComponentLink3URL: http://www.mouser.com/ds/2/389/ecmf02-2amx6-954491.pdf?src-supplier=Mouser; ComponentLink3Description: http://www.mouser.com/ds/2/389/ecmf02-2amx6-954491.pdf?src-supplier=Mouser; ComponentLink4URL: https://www.verical.com/server-webapp/html/getDatasheet?partID=259862&src-supplier=Verical; ComponentLink4Description: https://www.verical.com/server-webapp/html/getDatasheet?partID=259862&src-supplier=Verical; Supplier Part Number 1: 497-10773-1-ND
footprint QFN-6L (Footprint not found)
pins: 1 INP1, 2 INP2, 3 GND (power), 4 NC hidden, 5 OUT2, 6 OUT1

## CONN 0525592253 FFC VERT 22POS 0.50MM SMD
designator X?, comment KEYPAD-DISP  pin_1: ROW_1  pin_2: ROW_2  pin_3: ROW_3  pin_4: COL_1  pin_5: COL_2  pin_6: COL_3  pin_7: PWR  pin_8: GND  pin_9: RESET  pin_11: SDA  pin_13: RS  pin_15: WR  pin_17: CS  pin_19: LED_K  pin_21: LED_A  pin_22: VDD  pin_23: MNT
22 Position FFC, FPC Connector Contacts, Vertical - 1 Sided 0.020" (0.50mm) Surface Mount; Manufacturer: Molex; Manufacturer Part Number: 52559-2253; Current Rating: 500mA; Voltage Rating: 50V; Number of Positions: 22; Gender: Receptacle; Pitch: 0.5mm; Supplier 1: Digi-Key; Stock 1: 4369; Pricing 1: 1=2.66, 10=2.267, 100=1.8728 (USD); Mount: Surface Mount; Contact Plating: Gold; Contact Material: Bronze; Housing Material: Nylon; Number of Rows: 1; Package Quantity: 1000; Packaging: Tape and Reel; Termination: SMD/SMT; Number of Contacts: 22; Orientation: Vertical; Series: 52559; Number of Circuits: 22; REACH SVHC: Unknown; ComponentLink1URL: http://www.farnell.com/datasheets/1896633.pdf?src-supplier=Element14; ComponentLink1Description: http://www.farnell.com/datasheets/1896633.pdf?src-supplier=Element14; ComponentLink2URL: http://www.mouser.com/ds/2/276/0525592253_FFC_FPC_CONNECTORS-229826.pdf?src-supplier=Mouser; ComponentLink2Description: http://www.mouser.com/ds/2/276/0525592253_FFC_FPC_CONNECTORS-229826.pdf?src-supplier=Mouser; Supplier Part Number 1: WM10988CT-ND; pin_10: GND; pin_12: GND; pin_14: GND; pin_16: GND; pin_18: GND; pin_20: GND; pin_24: MNT
footprint CONN_0525592253 (Footprint not found)
pins: 1, 2, 3, 4, 5, 6, 7, 8, 9, 10, 11, 12, 13, 14, 15, 16, 17, 18, 19, 20, 21, 22, S1, S2

## CONN 2012670005 RCP USB3.1 TYPEC 24P SMD RA
designator P?, comment USB
USB-C (USB TYPE-C) USB 3.2 Gen 2 (USB 3.1 Gen 2, Superspeed + (USB 3.1)) Receptacle Connector 24 Position Surface Mount, Right Angle; Through Hole; Manufacturer: Molex; Manufacturer Part Number: 201267-0005; Number of Contacts: 24; Number of Ports: 1; Current Rating: 5A; Voltage Rating: 30V; Mating Cycles: 20000; Shielding: Shielded; Supplier 1: Digi-Key; Stock 1: 2580; Pricing 1: 1=2.34, 10=1.997, 100=1.6496 (USD); Mount: Surface Mount,Through Hole; Packaging: Tape and Reel; Connector Type: USB; Gender: Receptacle; ComponentLink1URL: https://www.molex.com/pdm_docs/sd/2012670005_sd.pdf?src-supplier=Digi-Key; ComponentLink1Description: https://www.molex.com/pdm_docs/sd/2012670005_sd.pdf?src-supplier=Digi-Key; ComponentLink2URL: http://www.farnell.com/datasheets/2722545.pdf?src-supplier=Element14; ComponentLink2Description: http://www.farnell.com/datasheets/2722545.pdf?src-supplier=Element14; Supplier Part Number 1: WM17992CT-ND; Contact Plating: Gold; Insulation Color: Black; Min Operating Temperature: -40°C; Max Operating Temperature: 105°C; Termination: Solder; Flammability Rating: UL94 V-0; ComponentLink3URL: http://www.farnell.com/datasheets/2722545.pdf?src-supplier=Newark; ComponentLink3Description: http://www.farnell.com/datasheets/2722545.pdf?src-supplier=Newark; ComponentLink4URL: https://www.molex.com/pdm_docs/pk/2012670005-PK1.pdf?src-supplier=Digi-Key; ComponentLink4Description: https://www.molex.com/pdm_docs/pk/2012670005-PK1.pdf?src-supplier=Digi-Key; ComponentLink5URL: http://www.farnell.com/datasheets/2722545.pdf?src-supplier=Farnell; ComponentLink5Description: http://www.farnell.com/datasheets/2722545.pdf?src-supplier=Farnell
footprint MOLEX_2012670005 (Footprint not found)
pins: A1 GND, A2 Tx+1, A3 Tx-1, A4 Vbus, A5 CC1, A6 D+1, A7 D-1, A8 Sbu1, A9 Vbus, A10 Rx-2, A11 Rx+2, A12 GND, B1 GND, B2 Tx+2, B3 Tx-2, B4 Vbus, B5 CC2, B6 D+2, B7 D-2, B8 Sbu2, B9 Vbus, B10 Rx-1, B11 Rx+1, B12 GND, S1, S2, S3, S4
text: USB 3.1; TYPE C

## CONN FFC BOTTOM 12POS 0.50MM R/A
designator X?, comment DISP  pin_1: GND  pin_2: K  pin_3: A  pin_4: VCI  pin_5: IOVCC  pin_6: RESET  pin_7: CS  pin_8: SCLK  pin_9: RS  pin_10: SDA  pin_11: SDO  pin_12: TE
12 Position FFC, FPC Connector Contacts, Bottom 0.020" (0.50mm) Surface Mount, Right Angle; Manufacturer: Molex; Manufacturer Part Number: 0527461271; Current Rating: 500mA; Voltage Rating: 50V; Number of Positions: 12; Pitch: 0.5mm; Supplier 1: Digi-Key; Stock 1: 4369; Pricing 1: 1=2.66, 10=2.267, 100=1.8728 (USD); Mount: Surface Mount; Contact Plating: Gold; Contact Material: Gold; Housing Material: Nylon; Number of Rows: 1; Package Quantity: 1000; Packaging: Tape and Reel; Termination: SMD/SMT; Number of Contacts: 12; Series: 052746; Number of Circuits: 12; REACH SVHC: Unknown; ComponentLink1URL: https://www.digikey.com/en/products/detail/molex/0527461271/3044844; ComponentLink1Description: https://www.digikey.com/en/products/detail/molex/0527461271/3044844; Supplier Part Number 1: WM6770TR-ND
footprint CONN_0527461271 (12 Position FFC, FPC Connector Contacts, Bottom 0.020" (0.50mm) Surface Mount, Right Angle)
pins: 1, 2, 3, 4, 5, 6, 7, 8, 9, 10, 11, 12

## CONN FFC FPC TOP 5POS 0.50MM R/A
designator P?, comment S201  pin_1: SCL  pin_2: SDA  pin_3: VDD  pin_4: GPIO  pin_5: GND  pin_MP1: MP
5 Position FFC, FPC Connector Contacts, Top 0.020" (0.50mm) Surface Mount, Right Angle; Manufacturer: Molex; Manufacturer Part Number: 0545500571; Actuator Material: Polyphenylene; Current Rating: 500mA; Voltage Rating: 50V; Number of Positions: 5; Contact Resistance: 40mR; Wire/Cable Type: Straight; Pitch: 0.02inch; Supplier 1: Digi-Key; Stock 1: 20865; Pricing 1: 1=0.98, 10=0.808, 100=0.673, 1000=0.5384 (USD); Mount: Surface Mount; Contact Material: Bronze; Contact Plating: Gold; Housing Material: Polymer; Min Operating Temperature: -20°C; Max Operating Temperature: 85°C; Package Quantity: 1; Packaging: Tape and Reel; Number of Rows: 1; Termination: Solder; Orientation: Right Angle; Length: 7.7mm; Depth: 5mm; Radiation Hardening: No; Flammability Rating: UL94 V-0; ComponentLink1URL: http://www.molex.com/webdocs/datasheets/pdf/en-us/0545500571_FFC_FPC_CONNECTORS.pdf?src-supplier=Avnet; ComponentLink1Description: http://www.molex.com/webdocs/datasheets/pdf/en-us/0545500571_FFC_FPC_CONNECTORS.pdf?src-supplier=Avnet; Supplier Part Number 1: WM8824CT-ND; pin_MP2: MP
footprint CONN_0545500571 (Footprint not found)
pins: 0 S1, 0 S2, 1, 2, 3, 4, 5

## CONN FFC TOP 9POS 0.50MM R/A
designator X?, comment Membrane keypads  pin_1: KEY1  pin_2: KEY2  pin_3: KEY3  pin_4: KEY4  pin_5: KEY5  pin_6: KEY6  pin_7: KEY7  pin_8: KEY8  pin_9: GND
9 Position - Connector Contacts, Top 0.020" (0.50mm) Surface Mount, Right Angle; Manufacturer: Molex; Manufacturer Part Number: 0527450997; Current Rating: 500mA; Voltage Rating: 50V; Number of Positions: 12; Pitch: 0.5mm; Supplier 1: Digi-Key; Stock 1: 4369; Pricing 1: 1=2.66, 10=2.267, 100=1.8728 (USD); Mount: Surface Mount; Contact Plating: Gold; Contact Material: Gold; Housing Material: Nylon; Number of Rows: 1; Package Quantity: 1000; Packaging: Tape and Reel; Termination: SMD/SMT; Number of Contacts: 12; Series: 052745; Number of Circuits: 12; REACH SVHC: Unknown; ComponentLink1URL: https://www.digikey.com/en/products/detail/molex/0527450997/3197100?s=N4IgTCBcDaIKxgOwBY4AYCcHEgLoF8g; ComponentLink1Description: https://www.digikey.com/en/products/detail/molex/0527450997/3197100?s=N4IgTCBcDaIKxgOwBY4AYCcHEgLoF8g; Supplier Part Number 1: WM8941TR-ND
footprint CONN_0527450997 (9 Position - Connector Contacts, Top 0.020" (0.50mm) Surface Mount, Right Angle)
pins: 1, 2, 3, 4, 5, 6, 7, 8, 9

## CONN FFC TOP 12POS 0.50MM R/A
designator X?, comment DISP  pin_1: GND  pin_2: K  pin_3: A  pin_4: VCI  pin_5: IOVCC  pin_6: RESET  pin_7: CS  pin_8: SCLK  pin_9: RS  pin_10: SDA  pin_11: SDO  pin_12: TE
12 Position FFC, FPC Connector Contacts, Top 0.020" (0.50mm) Surface Mount, Right Angle; Manufacturer: Molex; Manufacturer Part Number: 0527451233; Current Rating: 500mA; Voltage Rating: 50V; Number of Positions: 12; Pitch: 0.5mm; Supplier 1: Digi-Key; Stock 1: 4369; Pricing 1: 1=2.66, 10=2.267, 100=1.8728 (USD); Mount: Surface Mount; Contact Plating: Gold; Contact Material: Gold; Housing Material: Nylon; Number of Rows: 1; Package Quantity: 1000; Packaging: Tape and Reel; Termination: SMD/SMT; Number of Contacts: 12; Series: 052746; Number of Circuits: 12; REACH SVHC: Unknown; ComponentLink1URL: https://www.digikey.com/en/products/detail/molex/0527451233/4444628; ComponentLink1Description: https://www.digikey.com/en/products/detail/molex/0527451233/4444628; Supplier Part Number 1: WM11022TR-ND
footprint CONN_0527451233 (12 Position FFC, FPC Connector Contacts, Top 0.020" (0.50mm) Surface Mount, Right Angle)
pins: 1, 2, 3, 4, 5, 6, 7, 8, 9, 10, 11, 12

## CONN FFC VERT 9POS 0.50MM SMD
designator X?, comment Membrane keypads  pin_1: KEY1  pin_2: KEY2  pin_3: KEY3  pin_4: KEY4  pin_5: KEY5  pin_6: KEY6  pin_7: KEY7  pin_8: KEY8  pin_9: GND
9 Position FFC, FPC Connector Contacts, Vertical - 1 Sided 0.020" (0.50mm) Surface Mount; Manufacturer: Molex; Manufacturer Part Number: 0525590952; Current Rating: 500mA; Voltage Rating: 50V; Number of Positions: 12; Pitch: 0.5mm; Supplier 1: Digi-Key; Stock 1: 4369; Pricing 1: 1=2.66, 10=2.267, 100=1.8728 (USD); Mount: Surface Mount; Contact Plating: Gold; Contact Material: Gold; Housing Material: Nylon; Number of Rows: 1; Package Quantity: 1000; Packaging: Tape and Reel; Termination: SMD/SMT; Number of Contacts: 12; Series: 052745; Number of Circuits: 12; REACH SVHC: Unknown; ComponentLink1URL: https://www.digikey.com/en/products/detail/molex/0525590952/3262913?s=N4IgTCBcDaIKxjnAnABmQkBdAvkA; ComponentLink1Description: https://www.digikey.com/en/products/detail/molex/0525590952/3262913?s=N4IgTCBcDaIKxjnAnABmQkBdAvkA; Supplier Part Number 1: WM10983TR-ND
footprint CONN_0525590952 (9 Position FFC, FPC Connector Contacts, Vertical - 1 Sided 0.020" (0.50mm) Surface Mount)
pins: 1, 2, 3, 4, 5, 6, 7, 8, 9

## CONN HEADER SMD 2POS 1MM
designator P19.?, comment SP  pin_1: SP+  pin_2: SP-  pin_MP1: MP
Connector Header Surface Mount 2 position 0.039" (1.00mm); Manufacturer: JST; Manufacturer Part Number: BM02B-SRSS-TB(LF)(SN); Number of Positions: 2; Gender: Male; Current Rating: 1A; Contact Resistance: 30mR; Voltage Rating: 50V; Pitch: 1mm; Supplier 1: Digi-Key; Stock 1: 136465; Pricing 1: 1=0.51, 10=0.481, 100=0.3688, 500=0.3207 (USD); Mount: Surface Mount; Contact Plating: Tin,Copper; Contact Material: Brass,Tin; Color: Natural; Housing Color: Beige; Housing Material: Polyamide; Min Operating Temperature: -25°C; Max Operating Temperature: 85°C; Termination: Solder; Number of Rows: 1; Packaging: Tape and Reel; Fastening Type: Detent; Number of Contacts: 2; Connector Type: Header; Orientation: Right Angle; Max Current Rating: 1A; Max Voltage Rating (AC): 50V; Lead Free: Lead Free; Flammability Rating: UL94 V-0; ComponentLink1URL: https://www.digikey.com/en/products/detail/jst-sales-america-inc/BM02B-SRSS-TB-LF-SN/926694; ComponentLink1Description: https://www.digikey.com/en/products/detail/jst-sales-america-inc/BM02B-SRSS-TB-LF-SN/926694; Supplier Part Number 1: 455-1788-2-ND; Contact Shape: Circular; Insulation Material: Nylon; Insulation Color: Natural; Contact Finish - Mating: TIN; Series: BM02B-SR; Contact Type: Male Pin; Max Voltage Rating (DC): 50V; pin_MP2: MP
footprint CONN_JST_BM2B-SRSS-TB
pins: 1, 2, S1, S2

## CONN HEADER SMD 4POS 1.5MM
designator P?, comment DC Motor  pin_1: GND  pin_2: +VDC  pin_3: SENSE  pin_4: CTRL
Connector Header Surface Mount 4 position 0.059" (1.50mm); Manufacturer: JST; Manufacturer Part Number: B4B-ZR-SM4-TFT(LF)(SN); Body Plating: Tin; Number of Positions: 4; Connector Type: Header,Male Pin; Voltage Rating: 50V; Contact Resistance: 30mR; Max Current Rating: 1A; Insulation Resistance: 500MR; Gender: Male; Pitch: 1.5mm; Panel Thickness: 3.5mm; Supplier 1: Arrow; Stock 1: 0; Mount: SMD; Number of Pins: 4; Color: White; Contact Plating: Tin,Copper; Contact Material: Brass,Tin,Copper; Material: Nylon; Housing Color: Beige; Housing Material: Polyamide; Contact Shape: Circular; Insulation Material: Nylon; Insulation Color: Natural; Min Operating Temperature: -25°C; Max Operating Temperature: 85°C; Packaging: Bulk; Number of Rows: 1; Termination: Solder; Voltage Rating (DC): 50V; Current Rating: 1A; Voltage Rating (AC): 50V; Fastening Type: Detent; Max Voltage Rating (AC): 50V; Max Voltage Rating (DC): 50V; Number of Contacts: 4; Length: 7.5mm; Height: 7.2mm; Width: 3.5mm; Depth: 6mm; Lead Pitch: 1.5mm; Contact Mating Length: 0.094inch; REACH SVHC: No SVHC; Lead Free: Lead Free; Flammability Rating: UL94 V-0; ComponentLink1URL: https://www.digikey.com/en/products/detail/jst-sales-america-inc/B4B-ZR-SM4-TFT-LF-SN/2650576; ComponentLink1Description: https://www.digikey.com/en/products/detail/jst-sales-america-inc/B4B-ZR-SM4-TFT-LF-SN/2650576; Supplier Part Number 1: B4B-ZR-SM4-TFT(LF)(SN)
footprint CONN_JST_B4B-ZR-SM4-TF(LF)(SN) (Connector Header Surface Mount 4 position 0.059" (1.50mm))
pins: 1, 2, 3, 4

## CONN HEADER SMD 4POS 1MM
designator P?, comment Stepper Motor  pin_1: A+  pin_2: A-  pin_3: B+  pin_4: B-
Connector Header Surface Mount 4 position 0.039" (1.00mm); Manufacturer: JST; Manufacturer Part Number: BM04B-NSHSS-TBT(LF)(SN); Body Plating: Tin; Number of Positions: 4; Connector Type: Header,Male Pin; Voltage Rating: 50V; Contact Resistance: 30mR; Max Current Rating: 1A; Insulation Resistance: 100MR; Gender: Male; Pitch: 1mm; Stock 1: 0; Mount: SMD; Number of Pins: 4; Color: White; Contact Plating: Tin,Copper; Contact Material: Brass,Tin,Copper; Material: Nylon; Housing Material: Polyamide; Contact Shape: Circular; Insulation Material: Nylon; Insulation Color: Natural; Min Operating Temperature: -25°C; Max Operating Temperature: 85°C; Packaging: Bulk; Number of Rows: 1; Termination: Solder; Voltage Rating (DC): 50V; Current Rating: 1A; Voltage Rating (AC): 50V; Fastening Type: Detent; Max Voltage Rating (AC): 50V; Max Voltage Rating (DC): 50V; Number of Contacts: 4; Orientation: Right Angle; Lead Pitch: 1mm; REACH SVHC: No SVHC; Flammability Rating: UL94 V-0; ComponentLink1URL: https://www.digikey.com/en/products/detail/jst-sales-america-inc/BM04B-NSHSS-TBT-LF-SN/3313642; ComponentLink1Description: https://www.digikey.com/en/products/detail/jst-sales-america-inc/BM04B-NSHSS-TBT-LF-SN/3313642; Supplier Part Number 1: BM04B-NSHSS-TBT(LF)(SN)
footprint CONN_JST_BM04B-NSHSS-TBT (Connector Header Surface Mount 4 position 0.039" (1.00mm))
pins: 1, 2, 3, 4

## CONN HEADER SMD 5POS 2MM
designator P?, comment BLDC Motor  pin_1: U  pin_2: V  pin_MP1: MP  pin_3: W  pin_4: NTC-  pin_5: NTC+
Connector Header Surface Mount 5 position 0.079" (2.00mm); Manufacturer: JST; Manufacturer Part Number: B5B-PH-SM4-TB(LF)(SN); Number of Positions: 5; Connector Type: Male Pin; Contact Resistance: 20mR; Current Rating: 2A; Voltage Rating: 100V; Gender: Male; Pitch: 2mm; Supplier 1: Digi-Key; Stock 1: 0; Mount: Surface Mount; Color: Natural; Contact Plating: Tin,Copper; Contact Material: Brass,Tin; Housing Material: Polyamide; Housing Color: Beige; Min Operating Temperature: -25°C; Max Operating Temperature: 85°C; Number of Rows: 1; Packaging: Tape and Reel; Series: ZH; Contact Type: Male Pin; Termination: Solder; Max Current Rating: 2A; Fastening Type: Detent; Max Voltage Rating (AC): 100V; Number of Contacts: 5; Orientation: Right Angle; Length: 10.5mm; Width: 3.5mm; Height: 7.2mm; Depth: 6.5mm; REACH SVHC: Unknown; Lead Free: Lead Free; ComponentLink1URL: https://www.digikey.com/en/products/detail/jst-sales-america-inc/B5B-PH-SM4-TB-LF-SN/926644; ComponentLink1Description: https://www.digikey.com/en/products/detail/jst-sales-america-inc/B5B-PH-SM4-TB-LF-SN/926644; Supplier Part Number 1: 455-1737-1-ND; pin_MP2: MP
footprint CONN_JST_B5B-PH-SM4-TB(LF)(SN)
pins: 1, 2, 3, 4, 5, S1, S2

## CONN HEADER SMD R/A 2POS 1.5MM
designator P19.?, comment Batt Temp  pin_1: NTC+  pin_2: NTC-  pin_MP1: MP
Connector Header Surface Mount, Right Angle 2 position 0.059" (1.50mm); Manufacturer: JST; Manufacturer Part Number: S2B-ZR-SM4A-TF(LF)(SN); Number of Positions: 2; Gender: Male; Current Rating: 1A; Contact Resistance: 30mR; Voltage Rating: 50V; Pitch: 1.5mm; Supplier 1: Digi-Key; Stock 1: 136465; Pricing 1: 1=0.51, 10=0.481, 100=0.3688, 500=0.3207 (USD); Mount: Surface Mount; Contact Plating: Tin,Copper; Contact Material: Brass,Tin; Color: Natural; Housing Color: Beige; Housing Material: Polyamide; Min Operating Temperature: -25°C; Max Operating Temperature: 85°C; Termination: Solder; Number of Rows: 1; Packaging: Tape and Reel; Fastening Type: Detent; Number of Contacts: 2; Connector Type: Header; Orientation: Right Angle; Max Current Rating: 1A; Max Voltage Rating (AC): 50V; Length: 6mm; Height: 7.2mm; Width: 3.5mm; Depth: 6.5mm; Lead Free: Lead Free; Flammability Rating: UL94 V-0; ComponentLink1URL: http://www.jst-mfg.com/product/pdf/eng/eZH.pdf?src-supplier=Digi-Key; ComponentLink1Description: http://www.jst-mfg.com/product/pdf/eng/eZH.pdf?src-supplier=Digi-Key; ComponentLink2URL: https://www.verical.com/server-webapp/html/getDatasheet?partID=640459&src-supplier=Verical; ComponentLink2Description: https://www.verical.com/server-webapp/html/getDatasheet?partID=640459&src-supplier=Verical; ComponentLink3URL: https://www.verical.com/server-webapp/html/getDatasheet?partID=411993&src-supplier=Verical; ComponentLink3Description: https://www.verical.com/server-webapp/html/getDatasheet?partID=411993&src-supplier=Verical; Supplier Part Number 1: 455-1693-1-ND; Contact Shape: Circular; Insulation Material: Nylon; Insulation Color: Natural; Contact Finish - Mating: TIN; Series: ZH; Contact Type: Male Pin; Max Voltage Rating (DC): 50V; pin_MP2: MP
footprint CONN_JST_S2B-ZR-SM4A-TF(LF)(SN) (Footprint not found)
pins: 1, 2, S1, S2

## CONN HEADER SMD R/A 3POS
designator P?, comment BATT  Color: Natural  pin_1: BATT+  pin_2: NTC  pin_3: BATT-
Connector Header Surface Mount, Right Angle 3 position; Manufacturer: JST; Manufacturer Part Number: BM03B-AUHKS-GA-TB(LF)(SN); Number of Positions: 3; Connector Type: Male Pin; Contact Resistance: 20mR; Current Rating: 5A; Voltage Rating: 30V; Gender: Male; Pitch: 2mm; Supplier 1: Digi-Key; Stock 1: 0; Mount: Surface Mount; Contact Plating: Tin,Copper; Contact Material: Brass,Tin; Housing Material: Polyamide; Housing Color: Beige; Min Operating Temperature: -25°C; Max Operating Temperature: 85°C; Number of Rows: 1; Packaging: Tape and Reel; Series: AUX; Contact Type: Male Pin; Termination: Solder; Max Current Rating: 5A; Fastening Type: Detent; Max Voltage Rating (AC): 30V; Number of Contacts: 3; Orientation: Right Angle; REACH SVHC: Unknown; Lead Free: Lead Free; ComponentLink1URL: https://www.digikey.com/en/products/detail/jst-sales-america-inc/BM03B-AUHKS-GA-TB-LF-SN/5272486?s=N4IgTCBcDaIEIFkAMBmOBaAggVQBIGkBldAcU3QBU4AKAGQDEBKawgOUZAF0BfIA; ComponentLink1Description: https://www.digikey.com/en/products/detail/jst-sales-america-inc/BM03B-AUHKS-GA-TB-LF-SN/5272486?s=N4IgTCBcDaIEIFkAMBmOBaAggVQBIGkBldAcU3QBU4AKAGQDEBKawgOUZAF0BfIA; Supplier Part Number 1: 455-2901-2-ND
footprint CONN_JST_BM03B-AUHKS-GA-TB(LF)(SN) (Connector Header Surface Mount, Right Angle 3 position)
pins: 1, 2, 3